# Altium integrated library FPGA Legacy Instruments.IntLib: 14 symbols
Pins are listed as number, name and electrical type; pins without a type are passive.

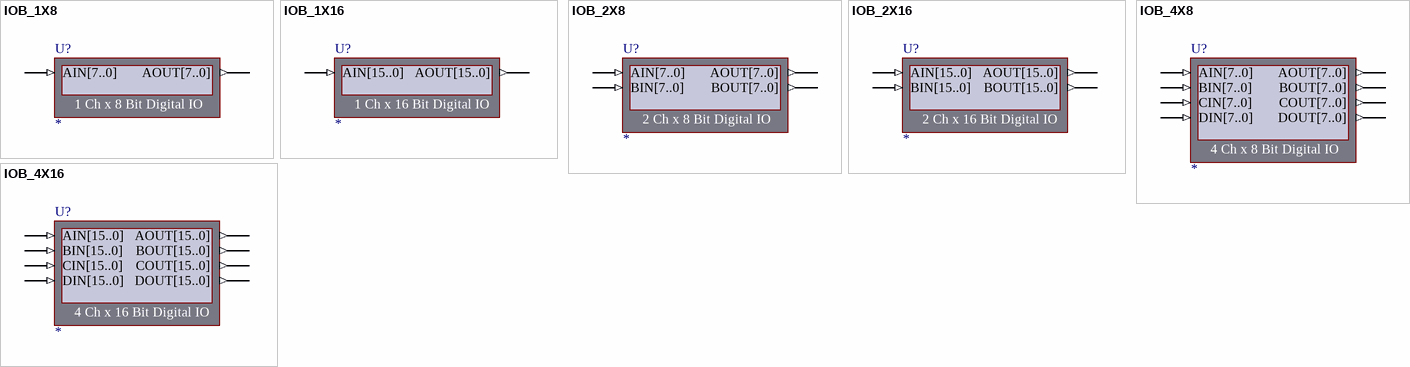
[diagram p0: symbols IOB_1X8 to IOB_4X16]

## IOB_1X8
designator U?
1 Ch x 8 Bit Digital IO; NEXUS_CORE: Instrument; NEXUS_JTAG_DEVICE: True; NEXUS_JTAG_ORDER: 0; Published: 3-Nov-2004; Publisher: Altium Limited; Core Revision: 1.00.00; ComponentLink1Description: Core &Resource Usage; ComponentLink1URL: CR0134 FPGA Instrument Resource Usage.pdf#page=4; HelpURL: https://wiki.altium.com/download/attachments/3409412/CR0102+IOB_x+Digital+IO+Module.PDF?version=1; LastRevisionNo: 1.00.00; UseInDSF: True
pins: AIN[7..0] (in), AOUT[7..0] (out)

## IOB_1X16
designator U?
1 Ch x 16 Bit Digital IO; NEXUS_CORE: Instrument; NEXUS_JTAG_DEVICE: True; NEXUS_JTAG_ORDER: 0; Published: 3-Nov-2004; Publisher: Altium Limited; Core Revision: 1.00.00; ComponentLink1Description: Core &Resource Usage; ComponentLink1URL: CR0134 FPGA Instrument Resource Usage.pdf#page=5; HelpURL: https://wiki.altium.com/download/attachments/3409412/CR0102+IOB_x+Digital+IO+Module.PDF?version=1; LastRevisionNo: 1.00.00; UseInDSF: True
pins: AIN[15..0] (in), AOUT[15..0] (out)

## IOB_2X8
designator U?
2 Ch x 8 Bit Digital IO; NEXUS_CORE: Instrument; NEXUS_JTAG_DEVICE: True; NEXUS_JTAG_ORDER: 0; Published: 3-Nov-2004; Publisher: Altium Limited; Core Revision: 1.00.00; ComponentLink1Description: Core &Resource Usage; ComponentLink1URL: CR0134 FPGA Instrument Resource Usage.pdf#page=6; HelpURL: https://wiki.altium.com/download/attachments/3409412/CR0102+IOB_x+Digital+IO+Module.PDF?version=1; LastRevisionNo: 1.00.00; UseInDSF: True
pins: AIN[7..0] (in), AOUT[7..0] (out), BIN[7..0] (in), BOUT[7..0] (out)

## IOB_2X16
designator U?
2 Ch x 16 Bit Digital IO; NEXUS_CORE: Instrument; NEXUS_JTAG_DEVICE: True; NEXUS_JTAG_ORDER: 0; Published: 3-Nov-2004; Publisher: Altium Limited; Core Revision: 1.00.00; ComponentLink1Description: Core &Resource Usage; ComponentLink1URL: CR0134 FPGA Instrument Resource Usage.pdf#page=7; HelpURL: https://wiki.altium.com/download/attachments/3409412/CR0102+IOB_x+Digital+IO+Module.PDF?version=1; LastRevisionNo: 1.00.00; UseInDSF: True
pins: AIN[15..0] (in), AOUT[15..0] (out), BIN[15..0] (in), BOUT[15..0] (out)

## IOB_4X8
designator U?
4 Ch x 8 Bit Digital IO; NEXUS_CORE: Instrument; NEXUS_JTAG_DEVICE: True; NEXUS_JTAG_ORDER: 0; Published: 3-Nov-2004; Publisher: Altium Limited; Core Revision: 1.00.00; ComponentLink1Description: Core &Resource Usage; ComponentLink1URL: CR0134 FPGA Instrument Resource Usage.pdf#page=8; HelpURL: https://wiki.altium.com/download/attachments/3409412/CR0102+IOB_x+Digital+IO+Module.PDF?version=1; LastRevisionNo: 1.00.00; UseInDSF: True
pins: AIN[7..0] (in), AOUT[7..0] (out), BIN[7..0] (in), BOUT[7..0] (out), CIN[7..0] (in), COUT[7..0] (out), DIN[7..0] (in), DOUT[7..0] (out)

## IOB_4X16
designator U?
4 Ch x 16 Bit Digital IO; NEXUS_CORE: Instrument; NEXUS_JTAG_DEVICE: True; NEXUS_JTAG_ORDER: 0; Published: 3-Nov-2004; Publisher: Altium Limited; Core Revision: 1.00.00; ComponentLink1Description: Core &Resource Usage; ComponentLink1URL: CR0134 FPGA Instrument Resource Usage.pdf#page=9; HelpURL: https://wiki.altium.com/download/attachments/3409412/CR0102+IOB_x+Digital+IO+Module.PDF?version=1; LastRevisionNo: 1.00.00; UseInDSF: True
pins: AIN[15..0] (in), AOUT[15..0] (out), BIN[15..0] (in), BOUT[15..0] (out), CIN[15..0] (in), COUT[15..0] (out), DIN[15..0] (in), DOUT[15..0] (out)


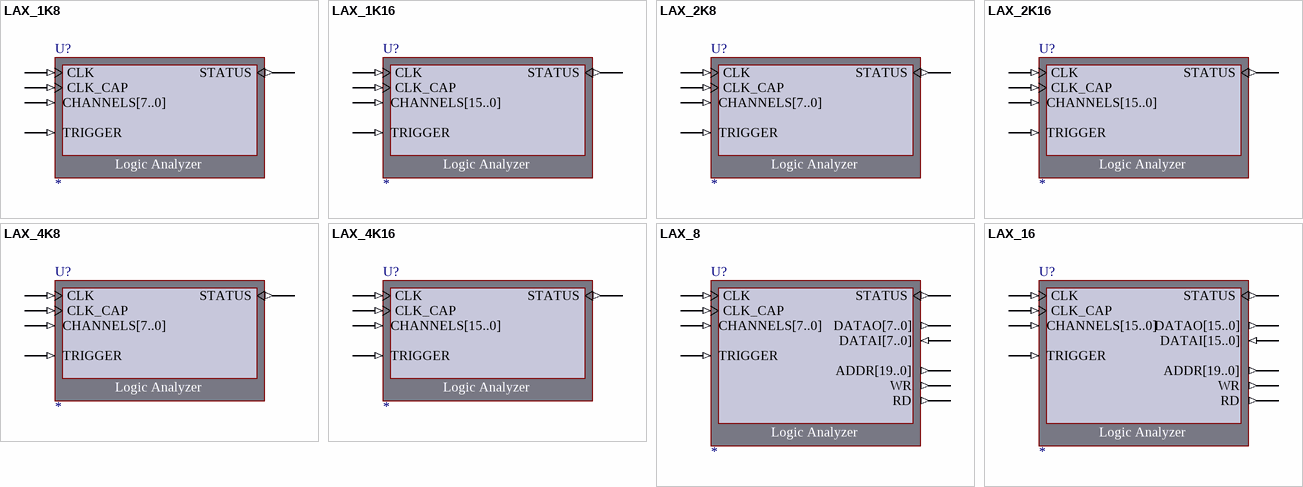
[diagram p1: symbols LAX_1K8 to LAX_16]

## LAX_1K8
designator U?
Logic Analyzer 1K8; NEXUS_CORE: Instrument; NEXUS_JTAG_DEVICE: True; NEXUS_JTAG_ORDER: 0; ChildModel1: RAM1KX8_LA8_1K; ChildModel2: RAM1KX8_LA8_1K_prim0; Published: 3-Nov-2004; Publisher: Altium Limited; Core Revision: 1.00.00; ComponentLink1Description: Core &Resource Usage; ComponentLink1URL: CR0134 FPGA Instrument Resource Usage.pdf#page=10; HelpURL: https://wiki.altium.com/download/attachments/3409412/CR0103+LAX_x+Logic+Analyzer.PDF?version=1; LastRevisionNo: 1.00.00
pins: CHANNELS[7..0] (in), CLK (in), CLK_CAP (in), STATUS (out), TRIGGER (in)
text: Logic Analyzer

## LAX_1K16
designator U?
Logic Analyzer 1K16; NEXUS_CORE: Instrument; NEXUS_JTAG_DEVICE: True; NEXUS_JTAG_ORDER: 0; ChildModel1: RAM1KX16_LA16_1K; ChildModel2: RAM1KX16_LA16_1K_prim0; Published: 3-Nov-2004; Publisher: Altium Limited; Core Revision: 1.00.00; ComponentLink1Description: Core &Resource Usage; ComponentLink1URL: CR0134 FPGA Instrument Resource Usage.pdf#page=11; HelpURL: https://wiki.altium.com/download/attachments/3409412/CR0103+LAX_x+Logic+Analyzer.PDF?version=1; LastRevisionNo: 1.00.00
pins: CHANNELS[15..0] (in), CLK (in), CLK_CAP (in), STATUS (out), TRIGGER (in)
text: Logic Analyzer

## LAX_2K8
designator U?
Logic Analyzer 2K8; NEXUS_CORE: Instrument; NEXUS_JTAG_DEVICE: True; NEXUS_JTAG_ORDER: 0; ChildModel1: RAM2Kx8_LA8_2K; ChildModel2: RAM2Kx8_LA8_2K_prim0; Published: 3-Nov-2004; Publisher: Altium Limited; Core Revision: 1.00.00; ComponentLink1Description: Core &Resource Usage; ComponentLink1URL: CR0134 FPGA Instrument Resource Usage.pdf#page=12; HelpURL: https://wiki.altium.com/download/attachments/3409412/CR0103+LAX_x+Logic+Analyzer.PDF?version=1; LastRevisionNo: 1.00.00
pins: CHANNELS[7..0] (in), CLK (in), CLK_CAP (in), STATUS (out), TRIGGER (in)
text: Logic Analyzer

## LAX_2K16
designator U?
Logic Analyzer 2K16; NEXUS_CORE: Instrument; NEXUS_JTAG_DEVICE: True; NEXUS_JTAG_ORDER: 0; ChildModel1: RAM2Kx16_LA16_2K; ChildModel2: RAM2Kx16_LA16_2K_prim0; Published: 3-Nov-2004; Publisher: Altium Limited; Core Revision: 1.00.00; ComponentLink1Description: Core &Resource Usage; ComponentLink1URL: CR0134 FPGA Instrument Resource Usage.pdf#page=13; HelpURL: https://wiki.altium.com/download/attachments/3409412/CR0103+LAX_x+Logic+Analyzer.PDF?version=1; LastRevisionNo: 1.00.00
pins: CHANNELS[15..0] (in), CLK (in), CLK_CAP (in), STATUS (out), TRIGGER (in)
text: Logic Analyzer

## LAX_4K8
designator U?
Logic Analyzer 4K8; NEXUS_CORE: Instrument; NEXUS_JTAG_DEVICE: True; NEXUS_JTAG_ORDER: 0; ChildModel1: RAM4Kx8_LA8_4K; ChildModel2: RAM4Kx8_LA8_4K_prim0; Published: 3-Nov-2004; Publisher: Altium Limited; Core Revision: 1.00.00; ComponentLink1Description: Core &Resource Usage; ComponentLink1URL: CR0134 FPGA Instrument Resource Usage.pdf#page=14; HelpURL: https://wiki.altium.com/download/attachments/3409412/CR0103+LAX_x+Logic+Analyzer.PDF?version=1; LastRevisionNo: 1.00.00
pins: CHANNELS[7..0] (in), CLK (in), CLK_CAP (in), STATUS (out), TRIGGER (in)
text: Logic Analyzer

## LAX_4K16
designator U?
Logic Analyzer 4K16; NEXUS_CORE: Instrument; NEXUS_JTAG_DEVICE: True; NEXUS_JTAG_ORDER: 0; ChildModel1: RAM4Kx16_LA16_4K; ChildModel2: RAM4Kx16_LA16_4K_prim0; Published: 3-Nov-2004; Publisher: Altium Limited; Core Revision: 1.00.00; ComponentLink1Description: Core &Resource Usage; ComponentLink1URL: CR0134 FPGA Instrument Resource Usage.pdf#page=15; HelpURL: https://wiki.altium.com/download/attachments/3409412/CR0103+LAX_x+Logic+Analyzer.PDF?version=1; LastRevisionNo: 1.00.00
pins: CHANNELS[15..0] (in), CLK (in), CLK_CAP (in), STATUS (out), TRIGGER (in)
text: Logic Analyzer

## LAX_8
designator U?
Logic Analyzer 8; NEXUS_CORE: Instrument; NEXUS_JTAG_DEVICE: True; NEXUS_JTAG_ORDER: 0; Published: 3-Nov-2004; Publisher: Altium Limited; Core Revision: 1.00.00; ComponentLink1Description: Core &Resource Usage; ComponentLink1URL: CR0134 FPGA Instrument Resource Usage.pdf#page=16; HelpURL: https://wiki.altium.com/download/attachments/3409412/CR0103+LAX_x+Logic+Analyzer.PDF?version=1; LastRevisionNo: 1.00.00
pins: ADDR[19..0] (out), CHANNELS[7..0] (in), CLK (in), CLK_CAP (in), DATAI[7..0] (in), DATAO[7..0] (out), RD (out), STATUS (out), TRIGGER (in), WR (out)
text: Logic Analyzer

## LAX_16
designator U?
Logic Analyzer 16; NEXUS_CORE: Instrument; NEXUS_JTAG_DEVICE: True; NEXUS_JTAG_ORDER: 0; Published: 3-Nov-2004; Publisher: Altium Limited; Core Revision: 1.00.00; ComponentLink1Description: Core &Resource Usage; ComponentLink1URL: CR0134 FPGA Instrument Resource Usage.pdf#page=17; HelpURL: https://wiki.altium.com/download/attachments/3409412/CR0103+LAX_x+Logic+Analyzer.PDF?version=1; LastRevisionNo: 1.00.00
pins: ADDR[19..0] (out), CHANNELS[15..0] (in), CLK (in), CLK_CAP (in), DATAI[15..0] (in), DATAO[15..0] (out), RD (out), STATUS (out), TRIGGER (in), WR (out)
text: Logic Analyzer